# Altium schematic symbol library HT56R66_64LQFP.SchLib: 1 symbol
Pins are listed as number, name and electrical type; pins without a type are passive.

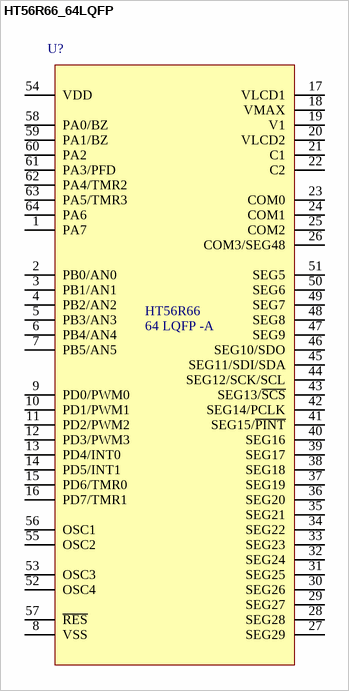
[diagram p0: symbol HT56R66_64LQFP]

## HT56R66_64LQFP
designator U?
pins: 1 PA7, 2 PB0/AN0, 3 PB1/AN1, 4 PB2/AN2, 5 PB3/AN3, 6 PB4/AN4, 7 PB5/AN5, 8 VSS, 9 PD0/PWM0, 10 PD1/PWM1, 11 PD2/PWM2, 12 PD3/PWM3, 13 PD4/INT0, 14 PD5/INT1, 15 PD6/TMR0, 16 PD7/TMR1, 17 VLCD1, 18 VMAX, 19 V1, 20 VLCD2, 21 C1, 22 C2, 23 COM0, 24 COM1, 25 COM2, 26 COM3/SEG48, 27 SEG29, 28 SEG28, 29 SEG27, 30 SEG26, 31 SEG25, 32 SEG24, 33 SEG23, 34 SEG22, 35 SEG21, 36 SEG20, 37 SEG19, 38 SEG18, 39 SEG17, 40 SEG16, 41 SEG15/~{PINT}, 42 SEG14/PCLK, 43 SEG13/~{SCS}, 44 SEG12/SCK/SCL, 45 SEG11/SDI/SDA, 46 SEG10/SDO, 47 SEG9, 48 SEG8, 49 SEG7, 50 SEG6, 51 SEG5, 52 OSC4, 53 OSC3, 54 VDD, 55 OSC2, 56 OSC1, 57 ~{RES}, 58 PA0/BZ, 59 PA1/BZ, 60 PA2, 61 PA3/PFD, 62 PA4/TMR2, 63 PA5/TMR3, 64 PA6
text: HT56R66; 64 LQFP -A